# Altium integrated library ImplantProject.IntLib: 6 symbols
Pins are listed as number, name and electrical type; pins without a type are passive.

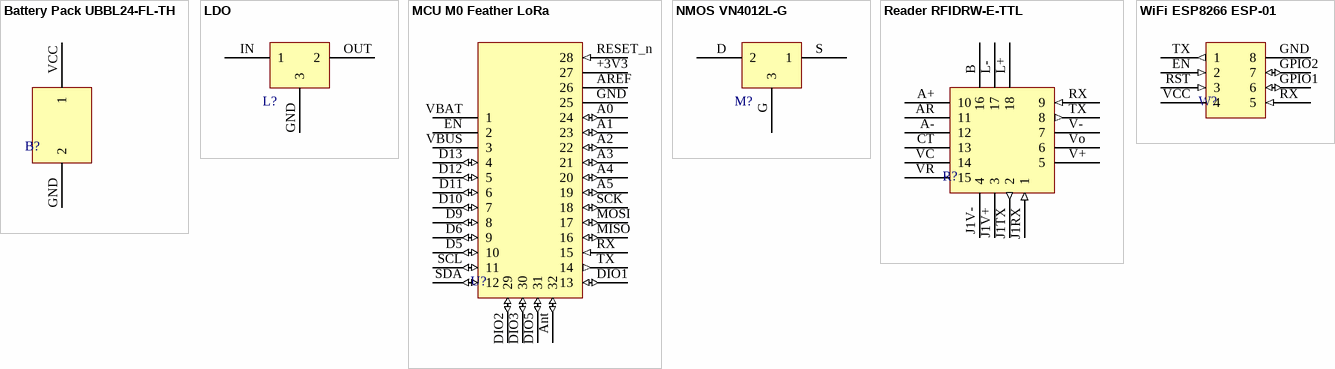
[diagram p0: symbols Battery Pack UBBL24-FL-TH to WiFi ESP8266 ESP-01]

## Battery Pack UBBL24-FL-TH
designator B?  (value not drawn)
pins: GND 2 (power), VCC 1 (power)

## LDO
designator L?  (value not drawn)
pins: GND 3 (power), IN 1 (power), OUT 2 (power)

## MCU M0 Feather LoRa
designator U?  (value not drawn)
pins: +3V3 27 (power), A0 24 (io), A1 23 (io), A2 22 (io), A3 21 (io), A4 20 (io), A5 19 (io), Ant 32 (io), AREF 26 (power), D5 10 (io), D6 9 (io), D9 8 (io), D10 7 (io), D11 6 (io), D12 5 (io), D13 4 (io), DIO1 13 (io), DIO2 29 (io), DIO3 30 (io), DIO5 31 (io), EN 2 (power), GND 25 (power), MISO 16 (io), MOSI 17 (io), RESET_n 28 (in), RX 15 (in), SCK 18 (io), SCL 11 (io), SDA 12 (io), TX 14 (out), VBAT 1 (power), VBUS 3 (power)

## NMOS VN4012L-G
designator M?  (value not drawn)
pins: D 2 (power), G 3 (power), S 1 (power)

## Reader RFIDRW-E-TTL
designator R?  (value not drawn)
pins: A+ 10, A- 12, AR 11, B 16, CT 13, J1RX 1 (in), J1TX 2 (out), J1V+ 3 (power), J1V- 4 (power), L+ 18, L- 17, RX 9 (in), TX 8 (out), V+ 5 (power), V- 7 (power), VC 14, Vo 6 (power), VR 15

## WiFi ESP8266 ESP-01
designator W?  (value not drawn)
pins: EN 2 (in), GND 8 (power), GPIO1 6 (io), GPIO2 7 (io), RST 3 (in), RX 5 (in), TX 1 (out), VCC 4 (power)